# EAGLE library part BUTTONPAD-4X4-RGB (library my-SparkFun-Switches)
4x4 Button Pad w/ RGB LEDs Layout and schematic for 4x4 button pad with tri-color LEDs under each button. For use with the 4x Button Pad 2x2 - LED Compatible <https://www.sparkfun.com/products/7836> and 4x Button Pad 2x2 Top Bezel <https://www.sparkfun.com/products/8746>. Any RGB 5mm LED <https://www.sparkfun.com/categories/172> should be compatible. SparkFun Products SparkFun Simon Says - Through-Hole Soldering Kit <https://www.sparkfun.com/products/10547> (KIT-10547) Button Pad 2x2 - Breakout PCB <https://www.sparkfun.com/products/9277> (COM-09277)
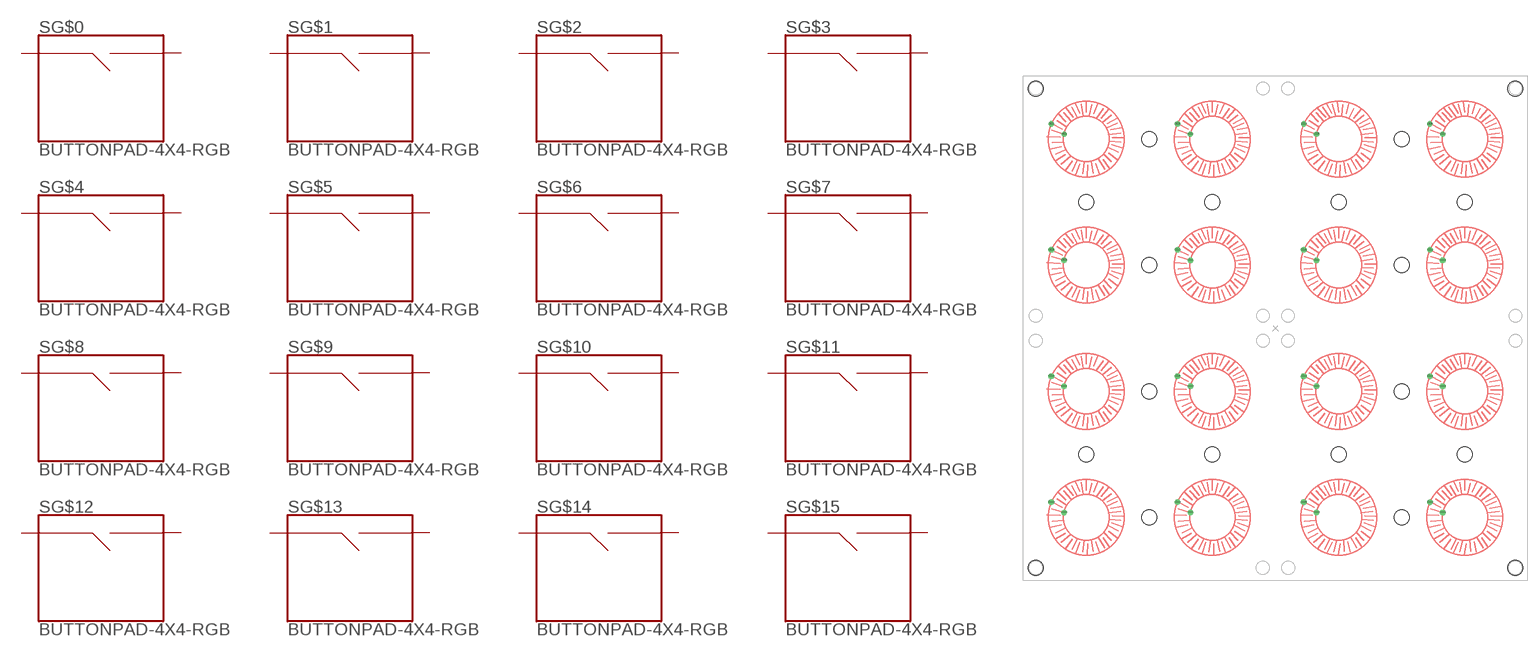
[diagram p1: symbol with the pads of BUTTONPAD-4X4-STAGGERED; footprint BUTTONPAD-4X4-STAGGERED]

Designator prefix S; gates G$0=BUTTONPAD-RGB G$1=BUTTONPAD-RGB G$2=BUTTONPAD-RGB G$3=BUTTONPAD-RGB G$4=BUTTONPAD-RGB G$5=BUTTONPAD-RGB G$6=BUTTONPAD-RGB G$7=BUTTONPAD-RGB G$8=BUTTONPAD-RGB G$9=BUTTONPAD-RGB G$10=BUTTONPAD-RGB G$11=BUTTONPAD-RGB G$12=BUTTONPAD-RGB G$13=BUTTONPAD-RGB G$14=BUTTONPAD-RGB G$15=BUTTONPAD-RGB

## BUTTONPAD-4X4-RGB-STAGGERED (PROD_ID: COMP-08481; SF_SKU: COM-07836)  [BUTTONPAD-4X4-STAGGERED]
SIG0  G$0:SIG1
SIG1  G$0:SIG2
SIG2  G$1:SIG1
SIG3  G$1:SIG2
SIG4  G$2:SIG1
SIG5  G$2:SIG2
SIG6  G$3:SIG1
SIG7  G$3:SIG2
SIG8  G$4:SIG1
SIG9  G$4:SIG2
SIG10  G$5:SIG1
SIG11  G$5:SIG2
SIG12  G$6:SIG1
SIG13  G$6:SIG2
SIG14  G$7:SIG1
SIG15  G$7:SIG2
SIG16  G$8:SIG1
SIG17  G$8:SIG2
SIG18  G$9:SIG1
SIG19  G$9:SIG2
SIG20  G$10:SIG1
SIG21  G$10:SIG2
SIG22  G$11:SIG1
SIG23  G$11:SIG2
SIG24  G$12:SIG1
SIG25  G$12:SIG2
SIG26  G$13:SIG1
SIG27  G$13:SIG2
SIG28  G$14:SIG1
SIG29  G$14:SIG2
SIG30  G$15:SIG1
SIG31  G$15:SIG2

## Footprint BUTTONPAD-4X4-STAGGERED (pad centres in mm)
4x4 Button Pad w/ RGB LEDs - Staggered LED Footprint Layout and schematic for 4x4 button pad with tri-color LEDs under each button. For use with the 4x Button Pad 2x2 - LED Compatible <https://www.sparkfun.com/products/7836> and 4x Button Pad 2x2 Top Bezel <https://www.sparkfun.com/products/8746>. Any RGB 5mm LED <https://www.sparkfun.com/categories/172> should be compatible.
drill 0.508: SIG0 5.588,90.513; SIG1 8.128,88.481; SIG2 30.588,90.513; SIG3 33.128,88.481; SIG4 55.588,90.513; SIG5 58.128,88.481; SIG6 80.588,90.513; SIG7 83.128,88.481
drill 0.6: SIG8 5.588,65.513; SIG9 8.128,63.481; SIG10 30.588,65.513; SIG11 33.128,63.481; SIG12 55.588,65.513; SIG13 58.128,63.481; SIG14 80.588,65.513; SIG15 83.128,63.481; SIG16 5.588,40.513; SIG17 8.128,38.481; SIG18 30.588,40.513; SIG19 33.128,38.481; SIG20 55.588,40.513; SIG21 58.128,38.481; SIG22 80.588,40.513; SIG23 83.128,38.481; SIG24 5.588,15.513; SIG25 8.128,13.481; SIG26 30.588,15.513; SIG27 33.128,13.481; SIG28 55.588,15.513; SIG29 58.128,13.481; SIG30 80.588,15.513; SIG31 83.128,13.481
hole 3 at 12.5,25
hole 3 at 25,37.5
hole 3 at 37.5,25
hole 3 at 25,12.5
hole 3 at 62.5,25
hole 3 at 75,37.5
hole 3 at 87.5,25
hole 3 at 75,12.5
hole 3 at 12.5,75
hole 3 at 25,87.5
hole 3 at 37.5,75
hole 3 at 25,62.5
hole 3 at 62.5,75
hole 3 at 75,87.5
hole 3 at 87.5,75
hole 3 at 75,62.5
hole 3 at 2.484,97.516
hole 3 at 97.516,97.516
hole 3 at 97.516,2.484
hole 3 at 2.484,2.484